# Altium schematic symbol library TPS54332DDAR.SchLib: 1 symbol
Pins are listed as number, name and electrical type; pins without a type are passive.

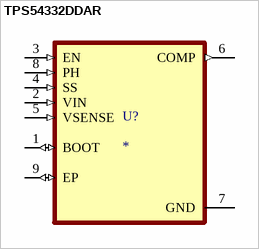
[diagram p0: symbol TPS54332DDAR]

## TPS54332DDAR
designator U?
3.5V to 28V Input, 3.5A, 1MHz Step-Down Converter with Eco-mode; MP: TPS54332DDAR; MF: Texas Instruments; Check_prices: https://www.snapeda.com/parts/TPS54332DDAR/Texas+Instruments/view-part/?ref=eda; Value: *; Purchase-URL: https://pricing.snapeda.com/search/part/TPS54332DDAR/?ref=eda; SnapEDA_Link: https://www.snapeda.com/parts/TPS54332DDAR/Texas+Instruments/view-part/?ref=snap; Package: HSOIC-8 Texas Instruments; Digi-Key_Part_Number: 296-39420-2-ND
footprint VREG_LM5017MR/NOPB
pins: 1 BOOT (io), 2 VIN (in), 3 EN (in), 4 SS (in), 5 VSENSE (in), 6 COMP (out), 7 GND (power), 8 PH (in), 9 EP (io)